# Altium footprint library Sumo Footprints.PcbLib: 37 footprints (part 3 of 3)
Each footprint in its own frame and in the unit in brackets; x right, y up, seen from the top. Pads: shape width x height; smd on the part's side, far side on the other; paste and mask are expansions set on the pad; w line width, h text height; cw(c..) or ccw(c..) is an arc to the next point about the centre after c.
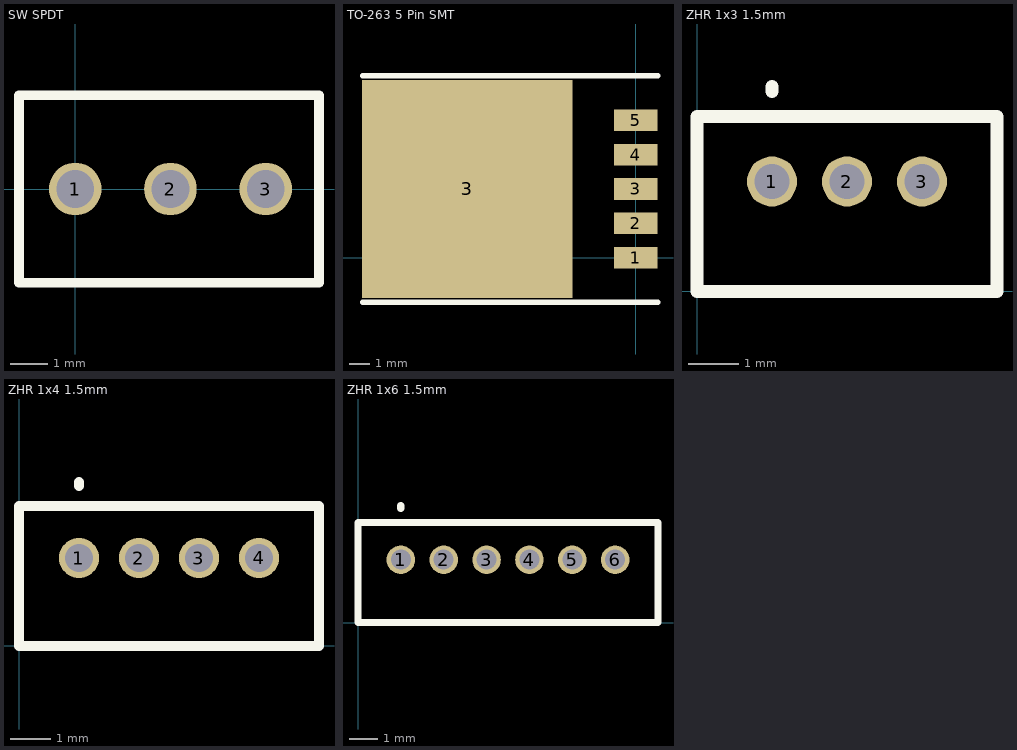
[diagram p2: the footprints below, top view; thin cyan lines are the x and y axes]

## SW SPDT [mm] "SW SPDT 0.1\" pitch"
pads (3):
  round 1.4 hole 1: 1(0,0) 2(2.54,0) 3(5.08,0)
Top Overlay:
  lines w0.254: -1.5,-2.5 6.5,-2.5 6.5,2.5 -1.5,2.5 -1.5,-2.5

## TO-263 5 Pin SMT [mm] "TO-263 5 Pin SMT"
pads (6):
  rect 2.16x1.07 smd: 1(0,0) 2(0,1.7) 3(0,3.4) 4(0,5.1) 5(0,6.8)
  rect 10.41x10.8 smd: 3(-8.33,3.4)
Top Overlay:
  lines w0.254: -13.5,-2.2 1.1,-2.2 ; -13.5,9 1.1,9

## ZHR 1x3 1.5mm [mm] "JST ZHR 1x3 1.5mm 1A"
pads (3):
  round 1 hole 0.7: 1(1.5,2.2) 2(3,2.2) 3(4.5,2.2)
Top Overlay:
  lines w0.254: 1.5,4 1.5,4.1 ; 0,0 6,0 6,3.5 0,3.5 0,0

## ZHR 1x4 1.5mm [mm] "JST ZHR 1x4 1.5mm 1A"
pads (4):
  round 1 hole 0.7: 1(1.5,2.2) 2(3,2.2) 3(4.5,2.2) 4(6,2.2)
Top Overlay:
  lines w0.254: 1.5,4 1.5,4.1 ; 0,0 7.5,0 7.5,3.5 0,3.5 0,0

## ZHR 1x6 1.5mm [mm] "JST ZHR 1x6 1.5mm 1A"
pads (6):
  round 1 hole 0.7: 1(1.5,2.2) 2(3,2.2) 3(4.5,2.2) 4(6,2.2) 5(7.5,2.2) 6(9,2.2)
Top Overlay:
  lines w0.254: 1.5,4 1.5,4.1 ; 0,0 0,3.5 10.5,3.5 10.5,0 0,0